# Altium schematic symbol library AD860x.SchLib: 1 symbol
Pins are listed as number, name and electrical type; pins without a type are passive.

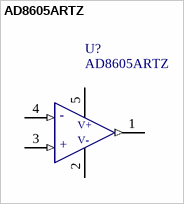
[diagram p0: symbol AD8605ARTZ]

## AD8605ARTZ
designator U?
Precision, Low Noise, CMOS, Rail-to-Rail,  Input/Output Operational Amplifiers; value: AD8605ARTZ
footprint DBV005_N (SOT23, 5-Leads, Body 2.9x1.6mm, Pitch 0.95mm, Lead Span 2.8mm, IPC Medium Density)
pins: 1 (out), 2 V- (power), 3 + (in), 4 - (in), 5 V+ (power)